# EAGLE library part 6PIN-JST-XH (library Tristan+Robitaille_s+Library)
SMT 6 Pin JST XH Fully Shrouded Male Connector Technical specifications : Pin pitch: 2.5mm Current rating: 3A Voltage rating: 250V Datasheet <http://www.jst-mfg.com/product/pdf/eng/eXH.pdf> Digi-Key part #: 455-2264-1-ND <https://www.digikey.ca/product-detail/en/jst-sales-america-inc/S6B-XH-SM4-TB(LF)(SN)/455-2264-1-ND/1651062> Manufacturer part #: S6B-XH-SM4-TB(LF)(SN)
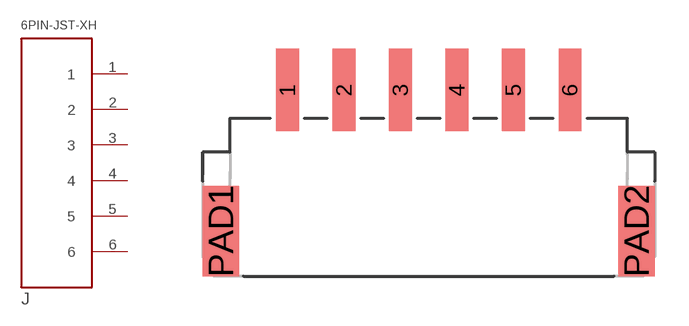
[diagram p31: symbol with the pads of SMT-JST-XH; footprint SMT-JST-XH]

Designator prefix J

## 6PIN-JST-XH (DIGIKEY#: 455-2264-1-ND; MANF: CONN HEADER XH SMD 6POS 2.5MM; MANF#: S6B-XH-SM4-TB(LF)(SN))  [SMT-JST-XH]
1  1
2  2
3  3
4  4
5  5
6  6

## Footprint SMT-JST-XH (pad centres in mm)
smd 1 x 3.65: 1 -6.25,8.25; 2 -3.75,8.25; 3 -1.25,8.25; 4 1.25,8.25; 5 3.75,8.25; 6 6.25,8.25
smd 1.6 x 4: PAD1 -9.2,2; PAD2 9.2,2